# EAGLE library part ARK6_35MM (library my_library)
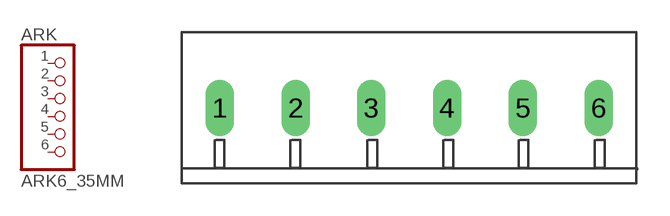
[diagram p1: symbol with the pads of ARK_350MM_6; footprint ARK_350MM_6]

Designator prefix ARK

## ARK6_35MM  [ARK_350MM_6]
1  1  pas
2  2  pas
3  3  pas
4  4  pas
5  5  pas
6  6  pas

## Footprint ARK_350MM_6 (pad centres in mm)
drill 0.8 long: 1 -8.586,0.066; 2 -5.086,0.066; 3 -1.586,0.066; 4 1.914,0.066; 5 5.414,0.066; 6 8.914,0.066